# EAGLE library part 10118194-0001LF (library 10118194-0001LF)
Micro USB, Input Output Connectors, B TYPE RECEPTACLE with flange Source: Datasheet <https://www.amphenol-cs.com/micro-usb-101181940001lf.html>
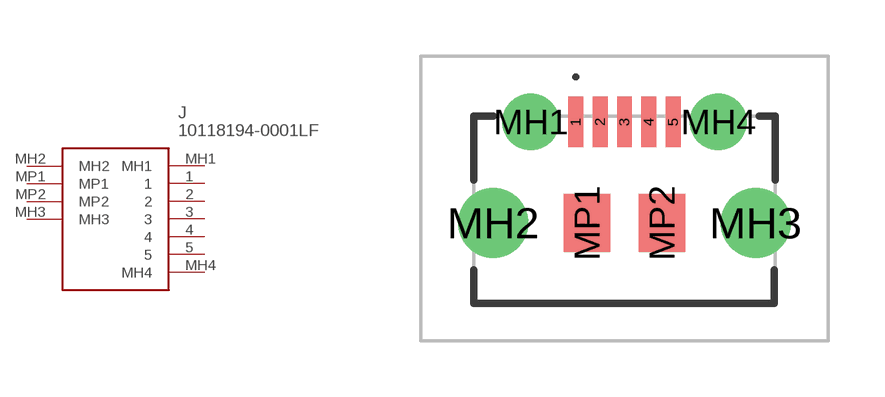
[diagram p0: symbol with the pads of 101181940001LF; footprint 101181940001LF]

Designator prefix J

## 10118194-0001LF (Arrow_Part_Number: 10118194-0001LF; Arrow_Price-Stock: https://www.arrow.com/en/products/10118194-0001lf/amphenol-fci?utm_currency=USD&region=nac; Description: Micro USB, Input Output Connectors, B TYPE RECEPTACLE with flange; Height: 3.25mm; Manufacturer_Name: Amphenol Communications Solutions; Manufacturer_Part_Number: 10118194-0001LF)  [101181940001LF]
1  1
2  2
3  3
4  4
5  5
MH1  MH1
MH2  MH2
MH3  MH3
MH4  MH4
MP1  MP1
MP2  MP2

## Footprint 101181940001LF (pad centres in mm)
10118194-0001LF-2
smd 0.4 x 1.35: 1 -1.3,2.35; 2 -0.65,2.35; 3 0,2.35; 4 0.65,2.35; 5 1.3,2.35
drill 1.01 pad 1.515: MH1 -2.5,2.35; MH4 2.5,2.35
drill 1.25 pad 1.875: MH2 -3.5,-0.35; MH3 3.5,-0.35
smd 1.25 x 1.55: MP1 -1,-0.35; MP2 1,-0.35